# Altium footprint library pedals-vactrol.PCBLIB: 4 footprints
Each footprint in its own frame and in the unit in brackets; x right, y up, seen from the top. Pads: shape width x height; smd on the part's side, far side on the other; paste and mask are expansions set on the pad; w line width, h text height; cw(c..) or ccw(c..) is an arc to the next point about the centre after c.
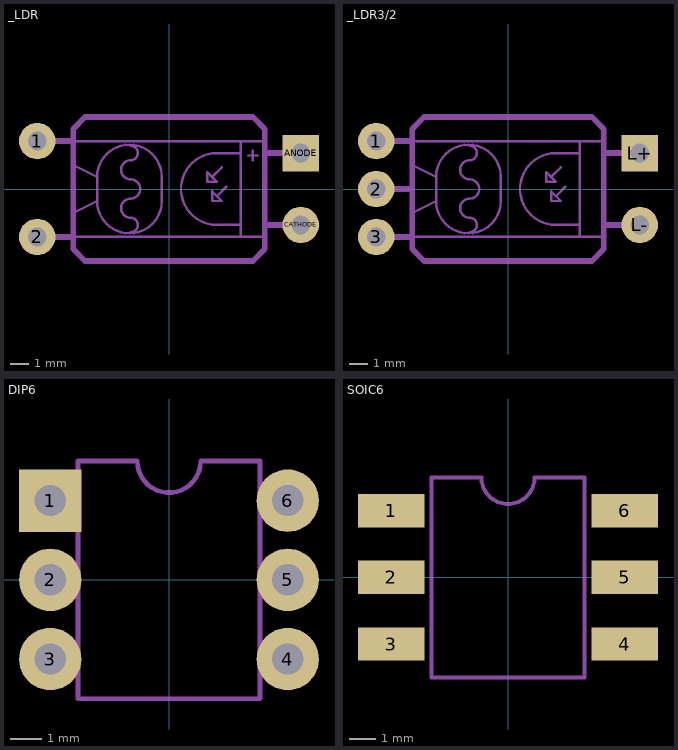
[diagram p0: the footprints below, top view; thin cyan lines are the x and y axes]

## _LDR [mil]
pads (4):
  round 76 hole 39.37: 1(-275,100) 2(-275,-100) CATHODE(275,-75)
  rect 76x76 hole 39.37: ANODE(275,75)
Mechanical 2:
  lines w5: -200,-100 150,-100 ; -200,-50 -150,-25 ; -200,50 -150,25 ; -200,100 150,100 ; -80,-90 ccw(c-80,-75) -80,-60 cw(c-80,-40) -80,-20 ccw(c-80,0) -80,20 cw(c-80,40) -80,60 ccw(c-80,75) -80,90 ; 110,45 90,25 ; 120,5 100,-15 ; 165,70 185,70 ; 175,60 175,80 ; 200,-100 150,-100 ; 200,100 150,100 ; -150,-25 -150,25 ; -150,-25 ccw(c-82.5,-25) -15,-25 -15,25 ccw(c-82.5,25) -150,25 ; 90,25 80,35 80,15 100,15 90,25 ; 100,-15 90,-5 90,-25 110,-25 100,-15 ; 150,-100 150,-75 ; 150,-75 150,75 ; 150,-75 100,-75 cw(c100,0) 100,75 150,75 ; 150,75 150,100
  lines w12: -275,-100 -200,-100 ; -275,100 -200,100 ; 275,-75 200,-75 ; 275,75 200,75 ; -200,-100 -200,-125 -175,-150 175,-150 200,-125 200,-100 200,-75 ; -200,-100 -200,-50 -200,50 -200,100 ; -200,100 -200,125 -175,150 175,150 200,125 200,100 200,75 ; 200,-75 200,75

## _LDR3/2 [mil]
pads (5):
  round 76 hole 39.37: 1(-275,100) 2(-275,0) 3(-275,-100) L-(275,-75)
  rect 76x76 hole 39.37: L+(275,75)
Mechanical 2:
  lines w5: -200,-100 150,-100 ; -200,-50 -150,-25 ; -200,50 -150,25 ; -200,100 150,100 ; -80,-90 ccw(c-80,-75) -80,-60 cw(c-80,-40) -80,-20 ccw(c-80,0) -80,20 cw(c-80,40) -80,60 ccw(c-80,75) -80,90 ; 110,45 90,25 ; 120,5 100,-15 ; 200,-100 150,-100 ; 200,100 150,100 ; -150,-25 -150,25 ; -150,-25 ccw(c-82.5,-25) -15,-25 -15,25 ccw(c-82.5,25) -150,25 ; 90,25 80,35 80,15 100,15 90,25 ; 100,-15 90,-5 90,-25 110,-25 100,-15 ; 150,-100 150,-75 ; 150,-75 150,75 ; 150,-75 100,-75 cw(c100,0) 100,75 150,75 ; 150,75 150,100
  lines w12: -275,-100 -200,-100 ; -275,0 -200,0 ; -275,100 -200,100 ; 275,-75 200,-75 ; 275,75 200,75 ; -200,-100 -200,-125 -175,-150 175,-150 200,-125 200,-100 200,-75 ; -200,-100 -200,-50 -200,0 ; -200,0 -200,50 -200,100 ; -200,100 -200,125 -175,150 175,150 200,125 200,100 200,75 ; 200,-75 200,75

## DIP6 [mm]
pads (6):
  rect 2x2 hole 1: 1(-3.81,2.54)
  round 2 hole 1: 2(-3.81,0) 3(-3.81,-2.54) 4(3.81,-2.54) 5(3.81,0) 6(3.81,2.54)
Mechanical 2:
  lines w0.152: -2.921,-3.81 -2.921,3.81 -1.016,3.81 ccw(c0,3.81) 1.016,3.81 2.921,3.81 2.921,-3.81 -2.921,-3.81

## SOIC6 [mil]
pads (6):
  rect 100x50 smd: 1(-175,100) 2(-175,0) 3(-175,-100) 4(175,-100) 5(175,0) 6(175,100)
Mechanical 2:
  lines w6: -115,-150 -115,150 -40,150 ccw(c0,150) 40,150 115,150 115,-150 -115,-150